# Altium footprint library robopoly.PCBLIB: 53 footprints (part 1 of 4)
Each footprint in its own frame and in the unit in brackets; x right, y up, seen from the top. Pads: shape width x height; smd on the part's side, far side on the other; paste and mask are expansions set on the pad; w line width, h text height; cw(c..) or ccw(c..) is an arc to the next point about the centre after c.
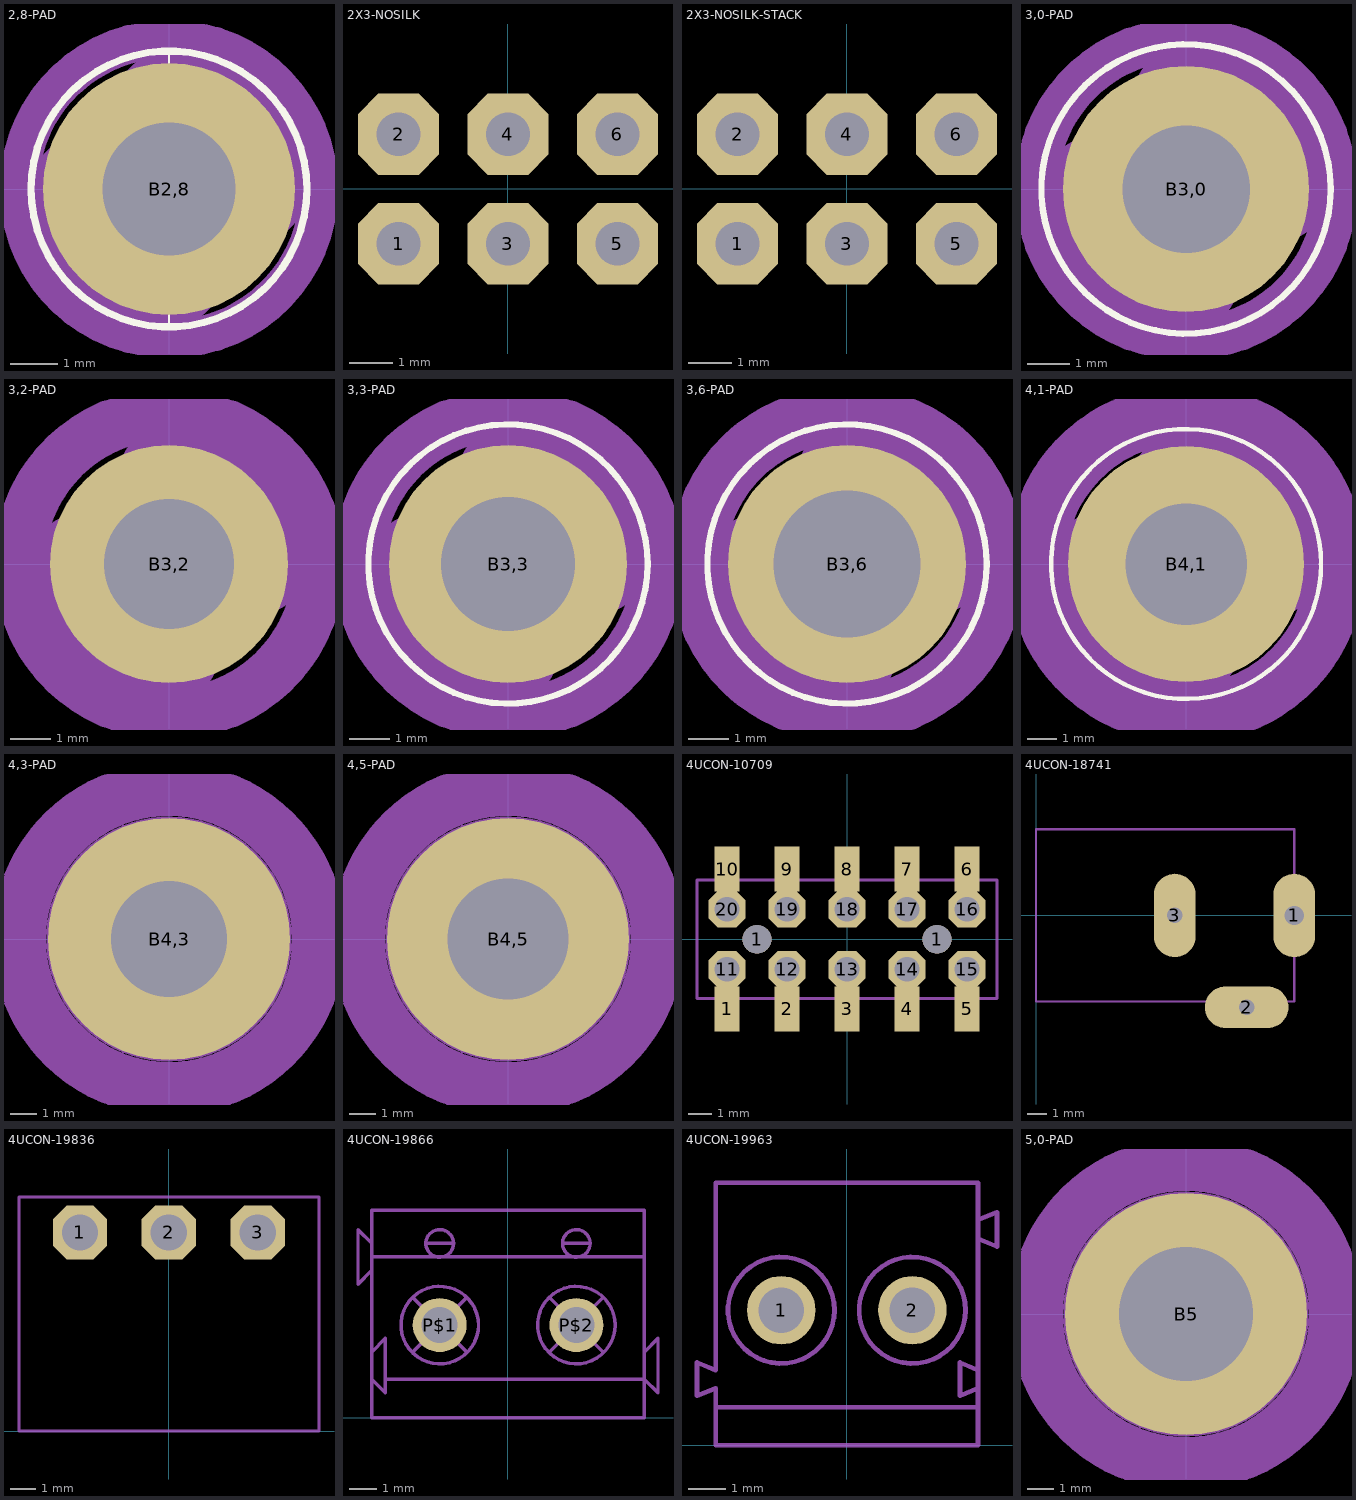
[diagram p0: the footprints below, top view; thin cyan lines are the x and y axes]

## 2,8-PAD [mil]
pads (1):
  round 210 hole 111: B2,8(0,0)
Top Overlay:
  circle w6: c0,0 r115
  circle w8: c0,0 r60
  lines w2: 0,-115 0,-105 ; 0,105 0,115
Mechanical 10:
  circle w32: c0,0 r125
Mechanical 16:
  circle w18: c0,0 r25
  lines w90: -70,0 ccw(c0,0) 0,-70 ; 0,70 cw(c0,0) 70,0
Mechanical 27:
  circle w32: c0,0 r125
Mechanical 28:
  circle w32: c0,0 r125

## 2X3-NOSILK [mil]
pads (6):
  oct 74x74 hole 40: 1(-100,-50) 2(-100,50) 3(0,-50) 4(0,50) 5(100,-50) 6(100,50)
Mechanical 16:
  rectangle: 90,-60 110,-40
  rectangle: 90,40 110,60
  rectangle: -10,-60 10,-40
  rectangle: -10,40 10,60
  rectangle: -110,40 -90,60
  rectangle: -110,-60 -90,-40

## 2X3-NOSILK-STACK [mil]
pads (6):
  oct 74x74 hole 40: 1(-100,-50) 2(-100,50) 3(0,-50) 4(0,50) 5(100,-50) 6(100,50)
Mechanical 16:
  rectangle: 90,-60 110,-40
  rectangle: 90,40 110,60
  rectangle: -10,-60 10,-40
  rectangle: -10,40 10,60
  rectangle: -110,40 -90,60
  rectangle: -110,-60 -90,-40

## 3,0-PAD [mil]
pads (1):
  round 230 hole 119: B3,0(0,0)
Top Overlay:
  circle w8: c0,0 r63
  circle w6: c0,0 r135
Mechanical 10:
  circle w40: c0,0 r140
Mechanical 13:
  text "3,0" at -50,-150 h77.5
Mechanical 16:
  circle w18: c0,0 r30
  lines w98: -85,0 ccw(c0,0) 0,-85 ; 0,85 cw(c0,0) 85,0
Mechanical 27:
  circle w40: c0,0 r140
Mechanical 28:
  circle w40: c0,0 r140

## 3,2-PAD [mil]
pads (1):
  round 230 hole 126: B3,2(0,0)
Mechanical 10:
  circle w40: c0,0 r140
Mechanical 16:
  circle w6: c0,0 r67
  circle w18: c0,0 r30
  circle w6: c0,0 r135
  lines w98: -85,0 ccw(c0,0) 0,-85 ; 0,85 cw(c0,0) 85,0
  text "3,2" at -50,-150 h77.5
Mechanical 27:
  circle w50: c0,0 r145
Mechanical 28:
  circle w50: c0,0 r145

## 3,3-PAD [mil]
pads (1):
  round 230 hole 130: B3,3(0,0)
Top Overlay:
  circle w8: c0,0 r67
  circle w6: c0,0 r135
Mechanical 10:
  circle w40: c0,0 r140
Mechanical 16:
  circle w18: c0,0 r30
  lines w98: -85,0 ccw(c0,0) 0,-85 ; 0,85 cw(c0,0) 85,0
Mechanical 27:
  circle w50: c0,0 r145
Mechanical 28:
  circle w50: c0,0 r145

## 3,6-PAD [mil]
pads (1):
  round 230 hole 142: B3,6(0,0)
Top Overlay:
  circle w8: c0,0 r75
  circle w6: c0,0 r135
Mechanical 10:
  circle w40: c0,0 r140
Mechanical 16:
  circle w18: c0,0 r30
  lines w98: -85,0 ccw(c0,0) 0,-85 ; 0,85 cw(c0,0) 85,0
Mechanical 27:
  circle w55: c0,0 r145
Mechanical 28:
  circle w55: c0,0 r145

## 4,1-PAD [mil]
pads (1):
  round 315 hole 162: B4,1(0,0)
Top Overlay:
  circle w8: c0,0 r85
  circle w6: c0,0 r180
Mechanical 10:
  circle w79: c0,0 r200
Mechanical 16:
  circle w18: c0,0 r30
  lines w154: -100,0 ccw(c0,0) 0,-100 ; 0,100 cw(c0,0) 100,0

## 4,3-PAD [mil]
pads (1):
  round 355 hole 170: B4,3(0,0)
Top Overlay:
  circle w6: c0,0 r89
Mechanical 10:
  circle w79: c0,0 r220
Mechanical 16:
  circle w18: c0,0 r30
  circle w6: c0,0 r177
  lines w154: -100,0 ccw(c0,0) 0,-100 ; 0,100 cw(c0,0) 100,0
Mechanical 27:
  circle w79: c0,0 r220
Mechanical 28:
  circle w79: c0,0 r220

## 4,5-PAD [mil]
pads (1):
  round 355 hole 178: B4,5(0,0)
Top Overlay:
  circle w6: c0,0 r93
Mechanical 10:
  circle w79: c0,0 r220
Mechanical 16:
  circle w18: c0,0 r30
  circle w6: c0,0 r177
  lines w154: -100,0 ccw(c0,0) 0,-100 ; 0,100 cw(c0,0) 100,0
Mechanical 27:
  circle w79: c0,0 r220
Mechanical 28:
  circle w79: c0,0 r220

## 4UCON-10709 [mil]
pads (22):
  rect 41x75 smd: 1(-200,-116.14) 2(-100,-116.14) 3(0,-116.14) 4(100,-116.14) 5(200,-116.14) 6(200,117) 7(100,117) 8(0,117) 9(-100,117) 10(-200,117)
  round 48 hole 48: 1(-150,0) 1(150,0)
  oct 61.5x61.5 hole 41: 11(-200,-50) 12(-100,-50) 13(0,-50) 14(100,-50) 15(200,-50) 16(200,50) 17(100,50) 18(0,50) 19(-100,50) 20(-200,50)
Mechanical 16:
  rectangle: -209.25,-131.89 -190.75,-98.43
  rectangle: -109.25,-131.89 -90.75,-98.43
  rectangle: 191,-131.89 210,-98.43
  rectangle: 91,-131.89 110,-98.43
  rectangle: -9.25,-131.89 10,-98.43
  rectangle: -209.25,99 -190.75,132
  rectangle: -109.25,99 -90.75,132
  rectangle: 191,99 210,132
  rectangle: 91,99 110,132
  rectangle: -9.25,99 10,132
  lines w5: -250,-98.43 250,-98.43 250,99 -250,99 -250,-98.43

## 4UCON-18741 [mil]
pads (3):
  oval 86x172 hole 40: 1(532,0)
  oval 172x86 hole 32: 2(434,-188.98)
  oval 86x172 hole 32: 3(286,0)
Mechanical 11:
  lines w0: 270,-43.31 ccw(c285.87,-43.18) 286,-59.06 ccw(c286.13,-43.18) 302,-43.31 302,44 ccw(c286,44) 286,60 ccw(c286,44) 270,44 270,-43.31 ; 375,-188.98 ccw(c390.37,-189.35) 390,-204.72 477,-204.72 ccw(c477.13,-188.85) 493,-188.98 ccw(c477.13,-189.1) 477,-173.23 390,-173.23 ccw(c390.37,-188.6) 375,-188.98 ; 512,-49.21 ccw(c531.84,-49.06) 532,-68.9 ccw(c532.16,-49.06) 552,-49.21 552,50 ccw(c532.5,49.5) 532,69 ccw(c531.5,49.5) 512,50 512,-49.21
Mechanical 16:
  rectangle: 282,-49.21 290,50
  rectangle: 522,-59.06 542,60
  rectangle: 384,-198.82 483,-179.13
  lines w5: 0,-177.17 532,-177.17 532,178 0,178 0,-177.17

## 4UCON-19836 [mil]
pads (3):
  oct 84x84 hole 56: 1(-137.8,308) 2(0,308) 3(138,308)
Mechanical 16:
  lines w5: -232.28,0 -232.28,363 233,363 233,0 -232.28,0

## 4UCON-19866 [mil]
pads (2):
  round 78 hole 52: P$1(-98.43,134) P$2(99,134)
Mechanical 16:
  circle w5: c99,252 r20
  circle w5: c-98.43,252 r20
  circle w5: c99,134 r56
  circle w5: c-98.43,134 r56
  lines w5: -137.8,95 -59.06,174 ; -137.8,174 -59.06,95 ; -118.11,252 -78.74,252 ; 60,95 138,174 ; 60,174 138,95 ; 79,252 119,252 ; -196.85,56 -177.17,36 -177.17,56 ; -196.85,56 -196.85,0 197,0 197,56 ; -196.85,56 -196.85,95 ; -196.85,95 -177.17,115 -177.17,56 ; -196.85,95 -196.85,213 ; -196.85,213 -216.54,193 -216.54,272 -196.85,252 ; -196.85,213 -196.85,233 ; -196.85,233 197,233 ; -196.85,233 -196.85,252 ; -196.85,252 -196.85,300 197,300 197,233 ; -177.17,56 197,56 ; 197,56 217,36 217,115 197,95 ; 197,56 197,95 ; 197,95 197,233

## 4UCON-19963 [mil]
pads (2):
  round 72 hole 48: 1(-68.9,142) 2(69,142)
Mechanical 16:
  circle w5: c69,142 r56
  circle w5: c-68.9,142 r56
  lines w5: -137.8,40 138,40 ; -137.8,40 -137.8,0 138,0 138,40 ; -137.8,40 -137.8,60 -157.48,52 -157.48,87 -137.8,79 -137.8,276 138,276 138,237 ; 138,40 138,60 ; 138,60 119,52 119,87 138,79 ; 138,60 138,79 ; 138,79 138,217 ; 138,217 158,209 158,245 138,237 ; 138,217 138,237

## 5,0-PAD [mil]
pads (1):
  round 355 hole 197: B5(0,0)
Top Overlay:
  circle w6: c0,0 r103
Mechanical 10:
  circle w79: c0,0 r220
Mechanical 16:
  circle w18: c0,0 r30
  circle w6: c0,0 r177
  lines w154: -100,0 ccw(c0,0) 0,-100 ; 0,100 cw(c0,0) 100,0
Mechanical 27:
  circle w79: c0,0 r220
Mechanical 28:
  circle w79: c0,0 r220